# EAGLE library part 74099-11 (library con-molex-c-grid)
C-Grid SL
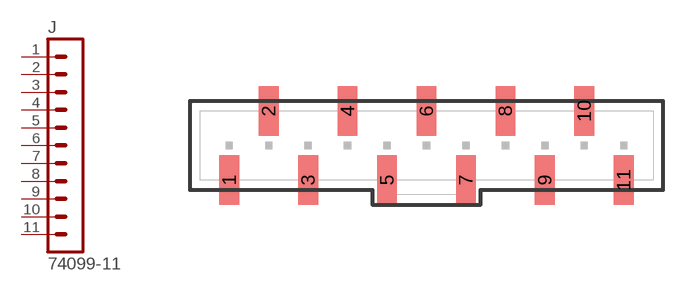
[diagram p45: symbol with the pads of 74099-11; footprint 74099-11]

Designator prefix J

## 74099-11  [74099-11]
1  1  pas
2  2  pas
3  3  pas
4  4  pas
5  5  pas
6  6  pas
7  7  pas
8  8  pas
9  9  pas
10  10  pas
11  11  pas

## Footprint 74099-11 (pad centres in mm)
C-Grid SL vertical, SMD
smd 1.27 x 3.175: 1 -12.7,-2.223; 2 -10.16,2.223; 3 -7.62,-2.223; 4 -5.08,2.223; 5 -2.54,-2.223; 6 0,2.223; 7 2.54,-2.223; 8 5.08,2.223; 9 7.62,-2.223; 10 10.16,2.223; 11 12.7,-2.223